# EAGLE library part MAX1708 (library max1708)
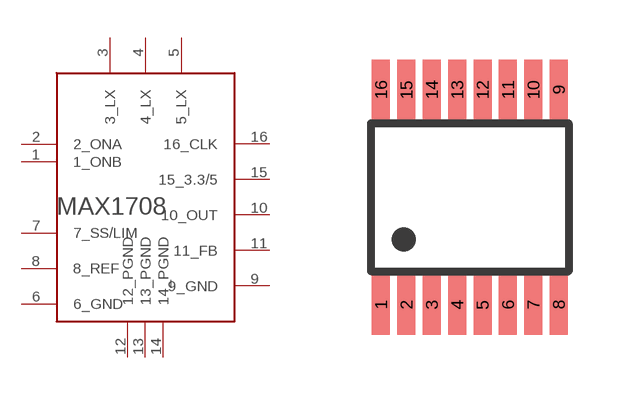
[diagram p0: symbol with the pads of QSOP16; footprint QSOP16]

Designator prefix -

## MAX1708  [QSOP16]
1  1_ONB
2  2_ONA
3  3_LX
4  4_LX
5  5_LX
6  6_GND
7  7_SS/LIM
8  8_REF
9  9_GND
10  10_OUT
11  11_FB
12  12_PGND
13  13_PGND
14  14_PGND
15  15_3.3/5
16  16_CLK

## Footprint QSOP16 (pad centres in mm)
smd 0.45 x 1.5: 1 -2.223,-2.69; 2 -1.587,-2.69; 3 -0.953,-2.69; 4 -0.318,-2.69; 5 0.318,-2.69; 6 0.953,-2.69; 7 1.587,-2.69; 8 2.223,-2.69; 9 2.223,2.69; 10 1.587,2.69; 11 0.953,2.69; 12 0.318,2.69; 13 -0.318,2.69; 14 -0.953,2.69; 15 -1.587,2.69; 16 -2.223,2.69